# EAGLE library part TC2050-IDC-NL (library Athena-r0p1)
Cbl Plug-Of-Nails 10-Pin Check prices <https://pricing.snapeda.com/parts/TC2050-IDC-NL/Tag-Connect%20LLC/view-part?ref=eda>
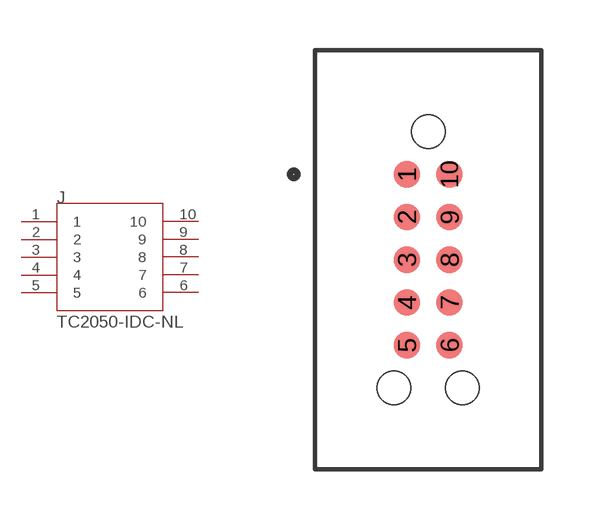
[diagram p3: symbol with the pads of TAG-CONNECT_TC2050-IDC-NL; footprint TAG-CONNECT_TC2050-IDC-NL]

Designator prefix J

## TC2050-IDC-NL (AVAILABILITY: In Stock; DESCRIPTION: MSP-FET430 Flash Emulation Tool Plug-Of-Nails™ Adapter Cable; MF: Tag-Connect LLC; MP: TC2050-IDC-NL; PACKAGE: None; PRICE: None; PURCHASE-URL: https://pricing.snapeda.com/search/part/TC2050-IDC-NL/?ref=eda)  [TAG-CONNECT_TC2050-IDC-NL]
1  1  pas
2  2  pas
3  3  pas
4  4  pas
5  5  pas
6  6  pas
7  7  pas
8  8  pas
9  9  pas
10  10  pas

## Footprint TAG-CONNECT_TC2050-IDC-NL (pad centres in mm)
smd 0.787 x 0.787: 1 0,0; 2 0,-1.27; 3 0,-2.54; 4 0,-3.81; 5 0,-5.08; 6 1.27,-5.08; 7 1.27,-3.81; 8 1.27,-2.54; 9 1.27,-1.27; 10 1.27,0
hole 0.991 at 1.65,-6.35
hole 0.991 at -0.38,-6.35
hole 0.991 at 0.635,1.27